# EAGLE library part PCIE-1X-LOWPROFILE (library ds_boards)
PCIe 1x Low profile board
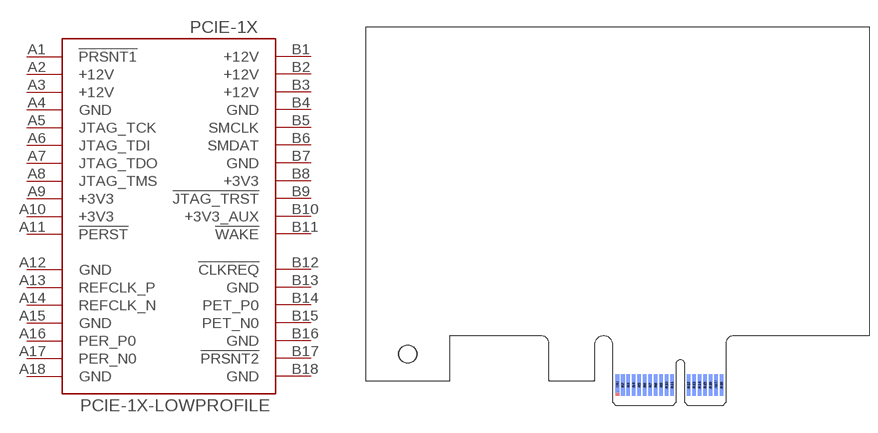
[diagram p2: symbol with the pads of PCIE_X1_LOWPROFILE; footprint PCIE_X1_LOWPROFILE]

Designator prefix PCIE-1X

## PCIE-1X-LOWPROFILE  [PCIE_X1_LOWPROFILE]
A1  !PRSNT1
A2  +12V  pwr
A3  +12V  pwr
A4  GND  pwr
A5  JTAG_TCK
A6  JTAG_TDI
A7  JTAG_TDO
A8  JTAG_TMS
A9  +3V3  pwr
A10  +3V3  pwr
A11  !PERST
A12  GND  pwr
A13  REFCLK_P
A14  REFCLK_N
A15  GND  pwr
A16  PER_P0
A17  PER_N0
A18  GND  pwr
B1  +12V  pwr
B2  +12V  pwr
B3  +12V  pwr
B4  GND  pwr
B5  SMCLK
B6  SMDAT
B7  GND  pwr
B8  +3V3  pwr
B9  !JTAG_TRST
B10  +3V3_AUX  pwr
B11  !WAKE
B12  !CLKREQ
B13  GND  pwr
B14  PET_P0
B15  PET_N0
B16  GND  pwr
B17  !PRSNT2
B18  GND  pwr

## Footprint PCIE_X1_LOWPROFILE (pad centres in mm)
smd 0.7 x 3.2 bottom: A1 45.75,-0.38
smd 0.7 x 3.91 bottom: A2 46.75,-0.735; A3 47.75,-0.735; A4 48.75,-0.735; A5 49.75,-0.735; A6 50.75,-0.735; A7 51.75,-0.735; A8 52.75,-0.735; A9 53.75,-0.735; A10 54.75,-0.735; A11 55.75,-0.735; A12 58.75,-0.735; A13 59.75,-0.735; A14 60.75,-0.735; A15 61.75,-0.735; A16 62.75,-0.735; A17 63.75,-0.735; A18 64.75,-0.735
smd 0.7 x 3.91: B1 45.75,-0.735; B2 46.75,-0.735; B3 47.75,-0.735; B4 48.75,-0.735; B5 49.75,-0.735; B6 50.75,-0.735; B7 51.75,-0.735; B8 52.75,-0.735; B9 53.75,-0.735; B10 54.75,-0.735; B11 55.75,-0.735; B12 58.75,-0.735; B13 59.75,-0.735; B14 60.75,-0.735; B15 61.75,-0.735; B16 62.75,-0.735; B18 64.75,-0.735
smd 0.7 x 3.2: B17 63.75,-0.38
hole 3.2 at 7.6,4.95